# EAGLE library part 6861XX188622_686122188622 (library 68611414422)
WR-FPC 1.00 mm SMT LIF Horizontal Top Contact KIND PROPERTIES Pitch 1 mm MATERIAL PROPERTIES Insulator Material LCP Contact Material Phosphor Bronze Contact Plating 2.032µm Tin over 1.27µm Nickel Contact Type Stamped Solder Tabs Brass <https://www.we-online.com/catalog/media/o162362v209%20Family_ConFPC_686118188622.jpg> Details see: https://www.we-online.com/catalog/en/em/FPC_1_00_SMT_LIF_HORIZONTAL_TOP_CONTACT_6861xx188622 Updated by Ella Wu 2020-08-26 2020(C) Wurth Elektronik
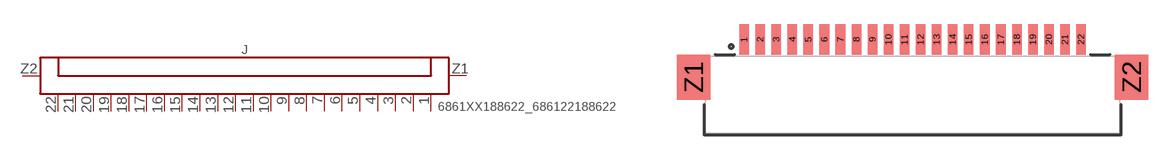
[diagram p6: symbol with the pads of 686122188622; footprint 686122188622]

Designator prefix J

## 6861XX188622_686122188622 (CONTACT-RESISTANCE: 30mOhm; DATASHEET-URL: https://www.we-online.com/catalog/datasheet/686122188622.pdf; IR: 1A; L: 25.8mm; PACKAGING: Tape and Reel; PART-NUMBER: 686122188622; PINS: 22; PITCH: 1mm; TYPE: Horizontal; VALUE: 686122188622; WORKING-VOLTAGE: 125V(AC))  [686122188622]
1  1  pas
2  2  pas
3  3  pas
4  4  pas
5  5  pas
6  6  pas
7  7  pas
8  8  pas
9  9  pas
10  10  pas
11  11  pas
12  12  pas
13  13  pas
14  14  pas
15  15  pas
16  16  pas
17  17  pas
18  18  pas
19  19  pas
20  20  pas
21  21  pas
22  22  pas
Z1  Z1  pas
Z2  Z2  pas

## Footprint 686122188622 (pad centres in mm)
WR-FPC 1.00 mm SMT LIF Horizontal Top Contact,22 Pins
smd 0.6 x 1.9: 1 -10.5,2.95; 2 -9.5,2.95; 3 -8.5,2.95; 4 -7.5,2.95; 5 -6.5,2.95; 6 -5.5,2.95; 7 -4.5,2.95; 8 -3.5,2.95; 9 -2.5,2.95; 10 -1.5,2.95; 11 -0.5,2.95; 12 0.5,2.95; 13 1.5,2.95; 14 2.5,2.95; 15 3.5,2.95; 16 4.5,2.95; 17 5.5,2.95; 18 6.5,2.95; 19 7.5,2.95; 20 8.5,2.95; 21 9.5,2.95; 22 10.5,2.95
smd 2.1 x 2.8: Z1 -13.65,0.6; Z2 13.65,0.6